# EAGLE library part LOGIC_ANALYZER_10PIN (library Z)
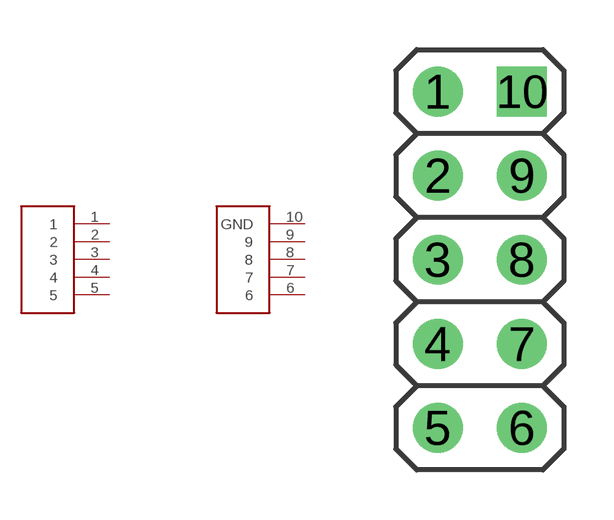
[diagram p7: symbol with the pads of LOGIC_ANALYZER_10PIN; footprint LOGIC_ANALYZER_10PIN]

Designator prefix -

## LOGIC_ANALYZER_10PIN  [LOGIC_ANALYZER_10PIN]
1  1
2  2
3  3
4  4
5  5
6  6
7  7
8  8
9  9
10  GND

## Footprint LOGIC_ANALYZER_10PIN (pad centres in mm)
PIN HEADER
drill 1: 1 -1.27,5.08; 2 -1.27,2.54; 3 -1.27,0; 4 -1.27,-2.54; 5 -1.27,-5.08; 6 1.27,-5.08; 7 1.27,-2.54; 8 1.27,0; 9 1.27,2.54
drill 1 square: 10 1.27,5.08